# EAGLE library part FXAS21002 (library maholli)
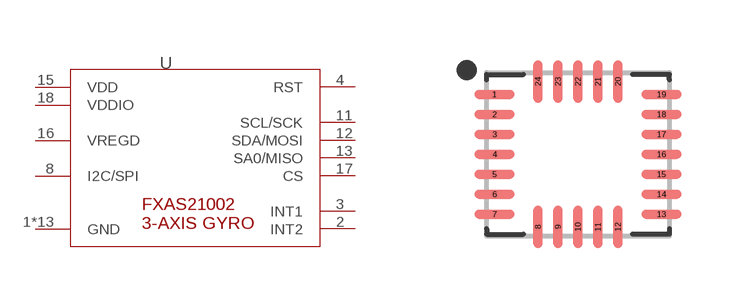
[diagram p26: symbol with the pads of QFN50P456X400X100-24; footprint QFN50P456X400X100-24]

Designator prefix U

## FXAS21002FXAS21002  [QFN50P456X400X100-24]
1  GND
2  INT2
3  INT1
4  RST
5  GND
6  GND
7  GND
8  I2C/SPI
9  GND
10  GND
11  SCL/SCK
12  SDA/MOSI
13  SA0/MISO
14  GND
15  VDD
16  VREGD
17  CS
18  VDDIO
19  GND
20  GND
21  GND
22  GND
23  GND
24  GND

## Footprint QFN50P456X400X100-24 (pad centres in mm)
24-QFN, 0.5 mm pitch, 4 X 4.565 X 1 mm body 24-pin QFN package with 0.5 mm pitch with body size 4 X 4.565 X 1 mm
smd 0.998 x 0.22: 1 -2.086,1.5; 2 -2.086,1; 3 -2.086,0.5; 4 -2.086,0; 5 -2.086,-0.5; 6 -2.086,-1; 7 -2.086,-1.5; 13 2.086,-1.5; 14 2.086,-1; 15 2.086,-0.5; 16 2.086,0; 17 2.086,0.5; 18 2.086,1; 19 2.086,1.5
smd 0.22 x 1.062: 8 -1,-1.819; 9 -0.5,-1.819; 10 0,-1.819; 11 0.5,-1.819; 12 1,-1.819; 20 1,1.819; 21 0.5,1.819; 22 0,1.819; 23 -0.5,1.819; 24 -1,1.819